# Altium integrated library Micron Memory Parallel NOR Flash.IntLib: 720 symbols (part 101 of 216)
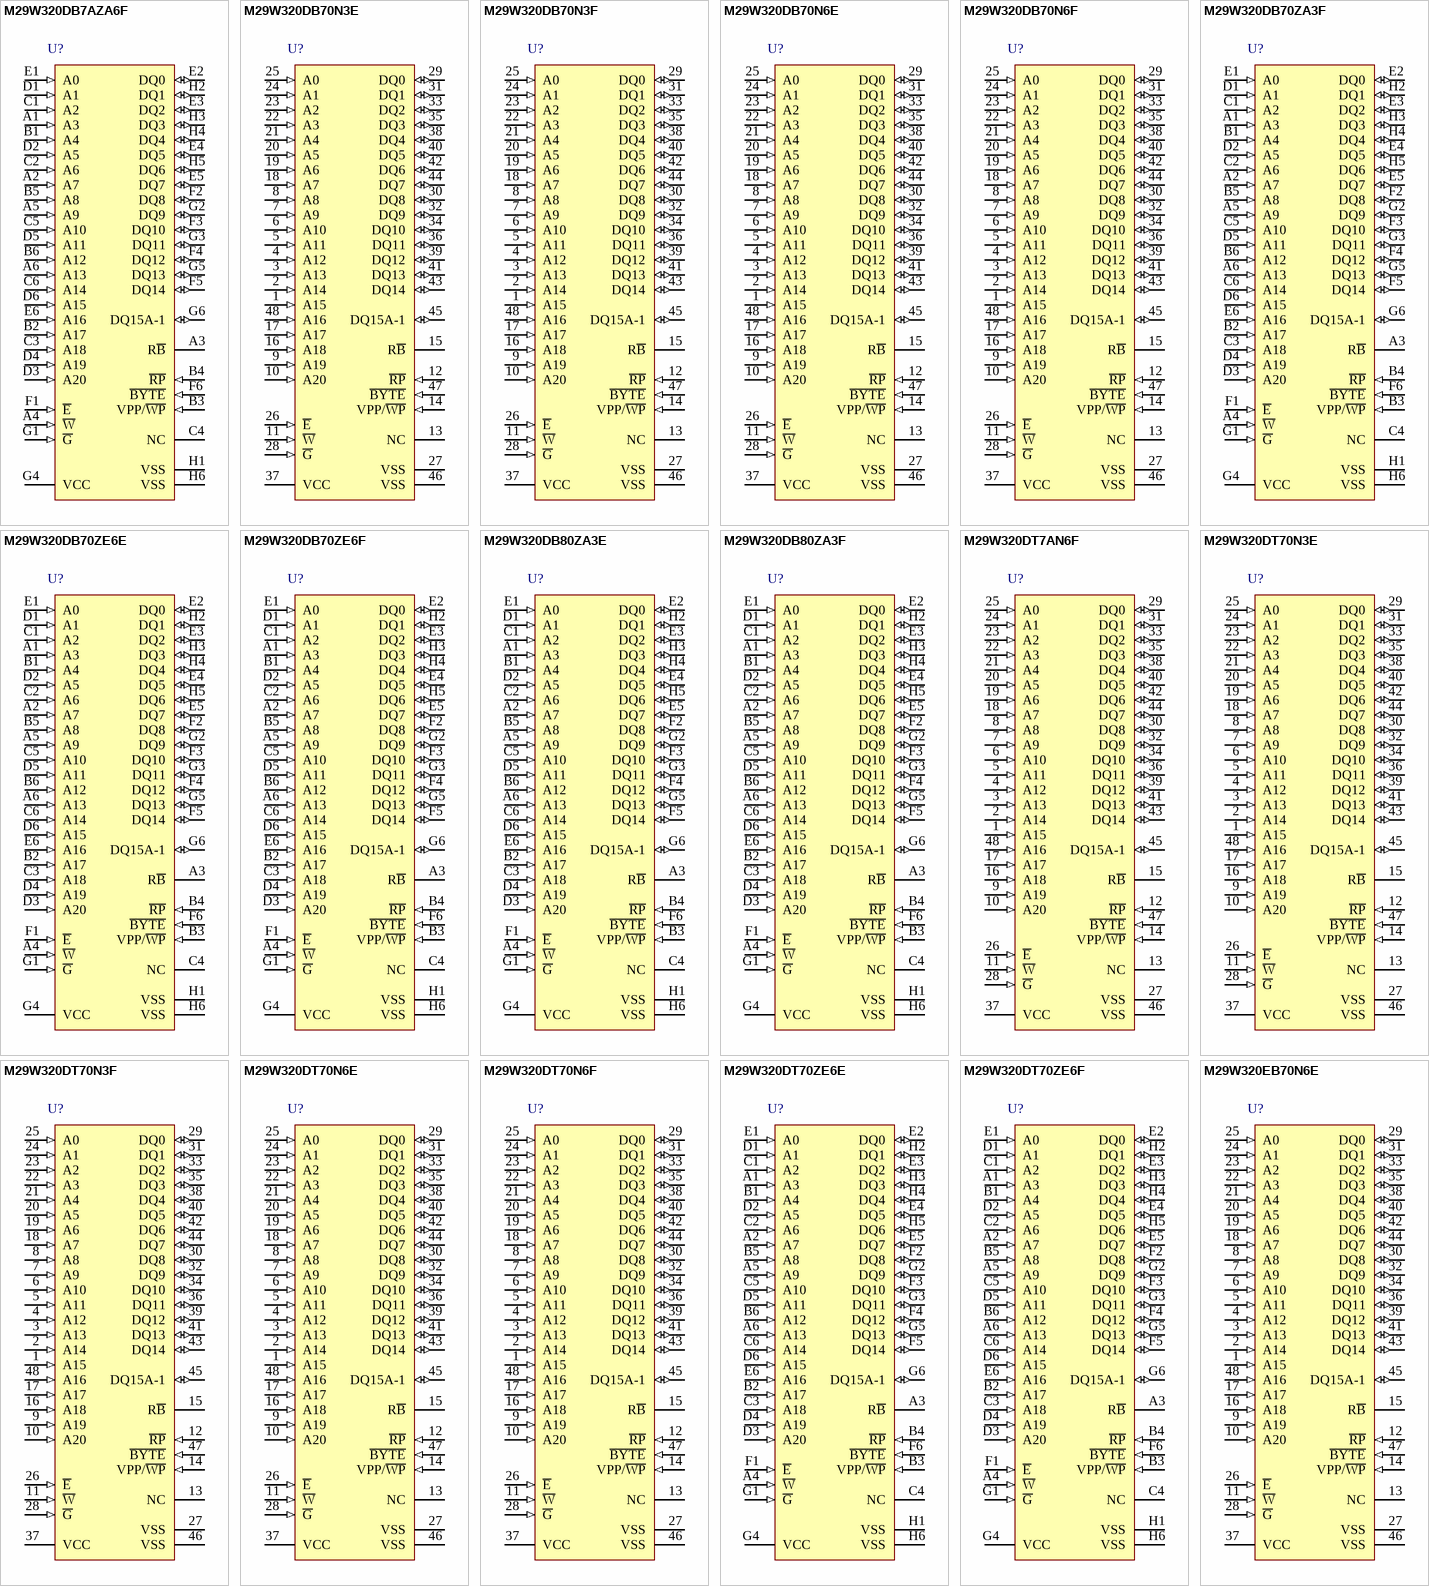
[diagram p144: symbols M29W320DB7AZA6F to M29W320EB70N6E]

## M29W320DB70N3F
designator U?
32 Mb (x8/x16) Automotive Parallel NOR Flash Memory, 70 ns, 2.7 to 3.6 V, 48-pin TSOP (N), Tape & Reel; Part Family: M29W; Manufacturer: Micron; PartNumber: M29W320DB70N3F; Density: 32Mb; Op Temp: -40C to +125C; Speed: 70ns; Voltage: 2.7V-3.6V; DatasheetVersion: Rev. 12; PackageVersion: Rev 11; PackageReference: MICT-N-48; PackageDescription: 48-Pin TSOP, 18.4 X 12 mm, Pitch 0.5 mm; RoHS: Yes; Width: x8/x16; Mounting Technology: Surface Mount; ComponentLink1Description: Manufacturer URL; ComponentLink1URL: http://www.micron.com/; ComponentLink2Description: Datasheet; ComponentLink2URL: http://www.micron.com/~/media/Documents/Products/Data%20Sheet/NOR%20Flash/Parallel/P33/208034_P33_65nm_SBC_64M_128M_Discrete_DS.pdf; ComponentLink3Description: Package Specification; ComponentLink3URL: http://www.micron.com/~/media/Documents/Products/Data%20Sheet/NOR%20Flash/Parallel/P30/306666_P30_130nm_Discrete_DS.pdf
footprint MICT-N-48_N (SOP, 48-Leads, Body 12x18.4mm, Pitch 0.5mm, IPC Medium Density)
pins: 1 A15 (in) "The Address Input select the cells in the memory array to access during Bus Read  operations. During Bus Write operations they control the commands sent to the Command  Interface of the internal state machine.", 2 A14 (in) "The Address Input select the cells in the memory array to access during Bus Read  operations. During Bus Write operations they control the commands sent to the Command  Interface of the internal state machine.", 3 A13 (in) "The Address Input select the cells in the memory array to access during Bus Read  operations. During Bus Write operations they control the commands sent to the Command  Interface of the internal state machine.", 4 A12 (in) "The Address Input select the cells in the memory array to access during Bus Read  operations. During Bus Write operations they control the commands sent to the Command  Interface of the internal state machine.", 5 A11 (in) "The Address Input select the cells in the memory array to access during Bus Read  operations. During Bus Write operations they control the commands sent to the Command  Interface of the internal state machine.", 6 A10 (in) "The Address Input select the cells in the memory array to access during Bus Read  operations. During Bus Write operations they control the commands sent to the Command  Interface of the internal state machine.", 7 A9 (in) "The Address Input select the cells in the memory array to access during Bus Read  operations. During Bus Write operations they control the commands sent to the Command  Interface of the internal state machine.", 8 A8 (in) "The Address Input select the cells in the memory array to access during Bus Read  operations. During Bus Write operations they control the commands sent to the Command  Interface of the internal state machine.", 9 A19 (in) "The Address Input select the cells in the memory array to access during Bus Read  operations. During Bus Write operations they control the commands sent to the Command  Interface of the internal state machine.", 10 A20 (in) "The Address Input select the cells in the memory array to access during Bus Read  operations. During Bus Write operations they control the commands sent to the Command  Interface of the internal state machine.", 11 ~{W} (in) "The Write Enable, W\, controls the Bus Write operation of the memory’s Command Interface.", 12 ~{RP} (in) "The Reset/Block Temporary Unprotect pin can be used to apply a Hardware Reset to the  memory or to temporarily unprotect all Blocks that have been protected.", 13 NC "Not Connected Internally", 14 VPP/~{WP} (in) "The VPP/Write Protect pin provides two functions. The VPP function allows the memory to  use an external high voltage power supply to reduce the time required for Unlock Bypass  Program operations. The Write Protect function (See Datasheet)", 15 R~{B} (hiz) "The Ready/Busy pin is an open-drain output that can be used to identify when the device is  performing a Program or Erase operation. During Program or Erase operations Ready/Busy  is Low, VOL . Ready/Busy is high-impedance (See Datasheet)", 16 A18 (in) "The Address Input select the cells in the memory array to access during Bus Read  operations. During Bus Write operations they control the commands sent to the Command  Interface of the internal state machine.", 17 A17 (in) "The Address Input select the cells in the memory array to access during Bus Read  operations. During Bus Write operations they control the commands sent to the Command  Interface of the internal state machine.", 18 A7 (in) "The Address Input select the cells in the memory array to access during Bus Read  operations. During Bus Write operations they control the commands sent to the Command  Interface of the internal state machine.", 19 A6 (in) "The Address Input select the cells in the memory array to access during Bus Read  operations. During Bus Write operations they control the commands sent to the Command  Interface of the internal state machine.", 20 A5 (in) "The Address Input select the cells in the memory array to access during Bus Read  operations. During Bus Write operations they control the commands sent to the Command  Interface of the internal state machine.", 21 A4 (in) "The Address Input select the cells in the memory array to access during Bus Read  operations. During Bus Write operations they control the commands sent to the Command  Interface of the internal state machine.", 22 A3 (in) "The Address Input select the cells in the memory array to access during Bus Read  operations. During Bus Write operations they control the commands sent to the Command  Interface of the internal state machine.", 23 A2 (in) "The Address Input select the cells in the memory array to access during Bus Read  operations. During Bus Write operations they control the commands sent to the Command  Interface of the internal state machine.", 24 A1 (in) "The Address Input select the cells in the memory array to access during Bus Read  operations. During Bus Write operations they control the commands sent to the Command  Interface of the internal state machine.", 25 A0 (in) "The Address Input select the cells in the memory array to access during Bus Read  operations. During Bus Write operations they control the commands sent to the Command  Interface of the internal state machine.", 26 ~{E} (in) "The Chip Enable, E\, activates the memory, allowing Bus Read and Bus Write operations to  be performed. When Chip Enable is High, VIH, all other pins are ignored.", 27 VSS (power) "VSS is the reference for all voltage measurements.", 28 ~{G} (in) "The Output Enable, G\, controls the Bus Read operation of the memory", 29 DQ0 (io) "The Data I/O Output the data stored at the selected address during a Bus Read operation.  During Bus Write operations they represent the commands sent to the Command Interface  of the internal state machine.", 30 DQ8 (io) "The Data I/O outputs the data stored at the selected address during a Bus Read operation  when B\Y\T\E\ is High, VIH. When B\Y\T\E\ is Low, VIL , these pins are not used and are high  impedance. During Bus Write operations (See Datasheet)", 31 DQ1 (io) "The Data I/O Output the data stored at the selected address during a Bus Read operation.  During Bus Write operations they represent the commands sent to the Command Interface  of the internal state machine.", 32 DQ9 (io) "The Data I/O outputs the data stored at the selected address during a Bus Read operation  when B\Y\T\E\ is High, VIH. When B\Y\T\E\ is Low, VIL , these pins are not used and are high  impedance. During Bus Write operations (See Datasheet)", 33 DQ2 (io) "The Data I/O Output the data stored at the selected address during a Bus Read operation.  During Bus Write operations they represent the commands sent to the Command Interface  of the internal state machine.", 34 DQ10 (io) "The Data I/O outputs the data stored at the selected address during a Bus Read operation  when B\Y\T\E\ is High, VIH. When B\Y\T\E\ is Low, VIL , these pins are not used and are high  impedance. During Bus Write operations (See Datasheet)", 35 DQ3 (io) "The Data I/O outputs the data stored at the selected address during a Bus Read operation.  During Bus Write operations they represent the commands sent to the Command Interface  of the internal state machine.", 36 DQ11 (io) "The Data I/O outputs the data stored at the selected address during a Bus Read operation  when B\Y\T\E\ is High, VIH. When B\Y\T\E\ is Low, VIL , these pins are not used and are high  impedance. During Bus Write operations (See Datasheet)", 37 VCC (power) "VCC provides the power supply for all operations (Read, Program and Erase).", 38 DQ4 (io) "The Data I/O OUTPUT the data stored at the selected address during a Bus Read operation.  During Bus Write operations they represent the commands sent to the Command Interface  of the internal state machine.", 39 DQ12 (io) "The Data I/O outputs the data stored at the selected address during a Bus Read operation  when B\Y\T\E\ is High, VIH. When B\Y\T\E\ is Low, VIL , these pins are not used and are high  impedance. During Bus Write operations (See Datasheet)", 40 DQ5 (io) "The Data I/O outputs the data stored at the selected address during a Bus Read operation.  During Bus Write operations they represent the commands sent to the Command Interface  of the internal state machine.", 41 DQ13 (io) "The Data I/O outputs the data stored at the selected address during a Bus Read operation  when B\Y\T\E\ is High, VIH. When B\Y\T\E\ is Low, VIL , these pins are not used and are high  impedance. During Bus Write operations (See Datasheet)", 42 DQ6 (io) "The Data I/O outputs the data stored at the selected address during a Bus Read operation.  During Bus Write operations they represent the commands sent to the Command Interface  of the internal state machine.", 43 DQ14 (io) "The Data I/O outputs the data stored at the selected address during a Bus Read operation  when B\Y\T\E\ is High, VIH. When B\Y\T\E\ is Low, VIL , these pins are not used and are high  impedance. During Bus Write operations (See Datasheet)", 44 DQ7 (io) "The Data I/O outputs the data stored at the selected address during a Bus Read operation.  During Bus Write operations they represent the commands sent to the Command Interface  of the internal state machine.", 45 DQ15A-1 (io) "When B\Y\T\E\ is High, VIH, this pin behaves as a Data Input/Output pin (as DQ8-DQ14).  When B\Y\T\E\ is Low, VIL , this pin behaves as an address pin; DQ15A-1 Low will select the  LSB of the Word on the other addresses, (See Datasheet)", 46 VSS (power) "VSS is the reference for all voltage measurements.", 47 ~{BYTE} (in) "The Byte/Word Organization Select pin is used to switch between the x8 and x16 Bus  modes of the memory. When Byte/Word Organization Select is Low, VIL , the memory is in  x8 mode, when it is High, VIH, the memory is in x16 (See Datasheet)", 48 A16 (in) "The Address Input select the cells in the memory array to access during Bus Read  operations. During Bus Write operations they control the commands sent to the Command  Interface of the internal state machine."

## M29W320DB70N6E
designator U?
32 Mb (x8/x16) Parallel NOR Flash Memory, 70 ns, 2.7 to 3.6 V, 48-pin TSOP (N), Tray; Part Family: M29W; Manufacturer: Micron; PartNumber: M29W320DB70N6E; Density: 32Mb; Op Temp: -40C to +85C; Speed: 70ns; Voltage: 2.7V-3.6V; DatasheetVersion: Rev. 12; PackageVersion: Rev 11; PackageReference: MICT-N-48; PackageDescription: 48-Pin TSOP, 18.4 X 12 mm, Pitch 0.5 mm; RoHS: Yes; Width: x8/x16; Mounting Technology: Surface Mount; ComponentLink1Description: Manufacturer URL; ComponentLink1URL: http://www.micron.com/; ComponentLink2Description: Datasheet; ComponentLink2URL: http://www.micron.com/~/media/Documents/Products/Data%20Sheet/NOR%20Flash/Parallel/P33/208034_P33_65nm_SBC_64M_128M_Discrete_DS.pdf; ComponentLink3Description: Package Specification; ComponentLink3URL: http://www.micron.com/~/media/Documents/Products/Data%20Sheet/NOR%20Flash/Parallel/P30/306666_P30_130nm_Discrete_DS.pdf
footprint MICT-N-48_N (SOP, 48-Leads, Body 12x18.4mm, Pitch 0.5mm, IPC Medium Density)
pins: 1 A15 (in) "The Address Input select the cells in the memory array to access during Bus Read  operations. During Bus Write operations they control the commands sent to the Command  Interface of the internal state machine.", 2 A14 (in) "The Address Input select the cells in the memory array to access during Bus Read  operations. During Bus Write operations they control the commands sent to the Command  Interface of the internal state machine.", 3 A13 (in) "The Address Input select the cells in the memory array to access during Bus Read  operations. During Bus Write operations they control the commands sent to the Command  Interface of the internal state machine.", 4 A12 (in) "The Address Input select the cells in the memory array to access during Bus Read  operations. During Bus Write operations they control the commands sent to the Command  Interface of the internal state machine.", 5 A11 (in) "The Address Input select the cells in the memory array to access during Bus Read  operations. During Bus Write operations they control the commands sent to the Command  Interface of the internal state machine.", 6 A10 (in) "The Address Input select the cells in the memory array to access during Bus Read  operations. During Bus Write operations they control the commands sent to the Command  Interface of the internal state machine.", 7 A9 (in) "The Address Input select the cells in the memory array to access during Bus Read  operations. During Bus Write operations they control the commands sent to the Command  Interface of the internal state machine.", 8 A8 (in) "The Address Input select the cells in the memory array to access during Bus Read  operations. During Bus Write operations they control the commands sent to the Command  Interface of the internal state machine.", 9 A19 (in) "The Address Input select the cells in the memory array to access during Bus Read  operations. During Bus Write operations they control the commands sent to the Command  Interface of the internal state machine.", 10 A20 (in) "The Address Input select the cells in the memory array to access during Bus Read  operations. During Bus Write operations they control the commands sent to the Command  Interface of the internal state machine.", 11 ~{W} (in) "The Write Enable, W\, controls the Bus Write operation of the memory’s Command Interface.", 12 ~{RP} (in) "The Reset/Block Temporary Unprotect pin can be used to apply a Hardware Reset to the  memory or to temporarily unprotect all Blocks that have been protected.", 13 NC "Not Connected Internally", 14 VPP/~{WP} (in) "The VPP/Write Protect pin provides two functions. The VPP function allows the memory to  use an external high voltage power supply to reduce the time required for Unlock Bypass  Program operations. The Write Protect function (See Datasheet)", 15 R~{B} (hiz) "The Ready/Busy pin is an open-drain output that can be used to identify when the device is  performing a Program or Erase operation. During Program or Erase operations Ready/Busy  is Low, VOL . Ready/Busy is high-impedance (See Datasheet)", 16 A18 (in) "The Address Input select the cells in the memory array to access during Bus Read  operations. During Bus Write operations they control the commands sent to the Command  Interface of the internal state machine.", 17 A17 (in) "The Address Input select the cells in the memory array to access during Bus Read  operations. During Bus Write operations they control the commands sent to the Command  Interface of the internal state machine.", 18 A7 (in) "The Address Input select the cells in the memory array to access during Bus Read  operations. During Bus Write operations they control the commands sent to the Command  Interface of the internal state machine.", 19 A6 (in) "The Address Input select the cells in the memory array to access during Bus Read  operations. During Bus Write operations they control the commands sent to the Command  Interface of the internal state machine.", 20 A5 (in) "The Address Input select the cells in the memory array to access during Bus Read  operations. During Bus Write operations they control the commands sent to the Command  Interface of the internal state machine.", 21 A4 (in) "The Address Input select the cells in the memory array to access during Bus Read  operations. During Bus Write operations they control the commands sent to the Command  Interface of the internal state machine.", 22 A3 (in) "The Address Input select the cells in the memory array to access during Bus Read  operations. During Bus Write operations they control the commands sent to the Command  Interface of the internal state machine.", 23 A2 (in) "The Address Input select the cells in the memory array to access during Bus Read  operations. During Bus Write operations they control the commands sent to the Command  Interface of the internal state machine.", 24 A1 (in) "The Address Input select the cells in the memory array to access during Bus Read  operations. During Bus Write operations they control the commands sent to the Command  Interface of the internal state machine.", 25 A0 (in) "The Address Input select the cells in the memory array to access during Bus Read  operations. During Bus Write operations they control the commands sent to the Command  Interface of the internal state machine.", 26 ~{E} (in) "The Chip Enable, E\, activates the memory, allowing Bus Read and Bus Write operations to  be performed. When Chip Enable is High, VIH, all other pins are ignored.", 27 VSS (power) "VSS is the reference for all voltage measurements.", 28 ~{G} (in) "The Output Enable, G\, controls the Bus Read operation of the memory", 29 DQ0 (io) "The Data I/O Output the data stored at the selected address during a Bus Read operation.  During Bus Write operations they represent the commands sent to the Command Interface  of the internal state machine.", 30 DQ8 (io) "The Data I/O outputs the data stored at the selected address during a Bus Read operation  when B\Y\T\E\ is High, VIH. When B\Y\T\E\ is Low, VIL , these pins are not used and are high  impedance. During Bus Write operations (See Datasheet)", 31 DQ1 (io) "The Data I/O Output the data stored at the selected address during a Bus Read operation.  During Bus Write operations they represent the commands sent to the Command Interface  of the internal state machine.", 32 DQ9 (io) "The Data I/O outputs the data stored at the selected address during a Bus Read operation  when B\Y\T\E\ is High, VIH. When B\Y\T\E\ is Low, VIL , these pins are not used and are high  impedance. During Bus Write operations (See Datasheet)", 33 DQ2 (io) "The Data I/O Output the data stored at the selected address during a Bus Read operation.  During Bus Write operations they represent the commands sent to the Command Interface  of the internal state machine.", 34 DQ10 (io) "The Data I/O outputs the data stored at the selected address during a Bus Read operation  when B\Y\T\E\ is High, VIH. When B\Y\T\E\ is Low, VIL , these pins are not used and are high  impedance. During Bus Write operations (See Datasheet)", 35 DQ3 (io) "The Data I/O outputs the data stored at the selected address during a Bus Read operation.  During Bus Write operations they represent the commands sent to the Command Interface  of the internal state machine.", 36 DQ11 (io) "The Data I/O outputs the data stored at the selected address during a Bus Read operation  when B\Y\T\E\ is High, VIH. When B\Y\T\E\ is Low, VIL , these pins are not used and are high  impedance. During Bus Write operations (See Datasheet)", 37 VCC (power) "VCC provides the power supply for all operations (Read, Program and Erase).", 38 DQ4 (io) "The Data I/O OUTPUT the data stored at the selected address during a Bus Read operation.  During Bus Write operations they represent the commands sent to the Command Interface  of the internal state machine.", 39 DQ12 (io) "The Data I/O outputs the data stored at the selected address during a Bus Read operation  when B\Y\T\E\ is High, VIH. When B\Y\T\E\ is Low, VIL , these pins are not used and are high  impedance. During Bus Write operations (See Datasheet)", 40 DQ5 (io) "The Data I/O outputs the data stored at the selected address during a Bus Read operation.  During Bus Write operations they represent the commands sent to the Command Interface  of the internal state machine.", 41 DQ13 (io) "The Data I/O outputs the data stored at the selected address during a Bus Read operation  when B\Y\T\E\ is High, VIH. When B\Y\T\E\ is Low, VIL , these pins are not used and are high  impedance. During Bus Write operations (See Datasheet)", 42 DQ6 (io) "The Data I/O outputs the data stored at the selected address during a Bus Read operation.  During Bus Write operations they represent the commands sent to the Command Interface  of the internal state machine.", 43 DQ14 (io) "The Data I/O outputs the data stored at the selected address during a Bus Read operation  when B\Y\T\E\ is High, VIH. When B\Y\T\E\ is Low, VIL , these pins are not used and are high  impedance. During Bus Write operations (See Datasheet)", 44 DQ7 (io) "The Data I/O outputs the data stored at the selected address during a Bus Read operation.  During Bus Write operations they represent the commands sent to the Command Interface  of the internal state machine.", 45 DQ15A-1 (io) "When B\Y\T\E\ is High, VIH, this pin behaves as a Data Input/Output pin (as DQ8-DQ14).  When B\Y\T\E\ is Low, VIL , this pin behaves as an address pin; DQ15A-1 Low will select the  LSB of the Word on the other addresses, (See Datasheet)", 46 VSS (power) "VSS is the reference for all voltage measurements.", 47 ~{BYTE} (in) "The Byte/Word Organization Select pin is used to switch between the x8 and x16 Bus  modes of the memory. When Byte/Word Organization Select is Low, VIL , the memory is in  x8 mode, when it is High, VIH, the memory is in x16 (See Datasheet)", 48 A16 (in) "The Address Input select the cells in the memory array to access during Bus Read  operations. During Bus Write operations they control the commands sent to the Command  Interface of the internal state machine."

## M29W320DB70N6F
designator U?
32 Mb (x8/x16) Parallel NOR Flash Memory, 70 ns, 2.7 to 3.6 V, 48-pin TSOP (N), Tape & Reel; Part Family: M29W; Manufacturer: Micron; PartNumber: M29W320DB70N6F; Density: 32Mb; Op Temp: -40C to +85C; Speed: 70ns; Voltage: 2.7V-3.6V; DatasheetVersion: Rev. 12; PackageVersion: Rev 11; PackageReference: MICT-N-48; PackageDescription: 48-Pin TSOP, 18.4 X 12 mm, Pitch 0.5 mm; RoHS: Yes; Width: x8/x16; Mounting Technology: Surface Mount; ComponentLink1Description: Manufacturer URL; ComponentLink1URL: http://www.micron.com/; ComponentLink2Description: Datasheet; ComponentLink2URL: http://www.micron.com/~/media/Documents/Products/Data%20Sheet/NOR%20Flash/Parallel/P33/208034_P33_65nm_SBC_64M_128M_Discrete_DS.pdf; ComponentLink3Description: Package Specification; ComponentLink3URL: http://www.micron.com/~/media/Documents/Products/Data%20Sheet/NOR%20Flash/Parallel/P30/306666_P30_130nm_Discrete_DS.pdf
footprint MICT-N-48_N (SOP, 48-Leads, Body 12x18.4mm, Pitch 0.5mm, IPC Medium Density)
pins: 1 A15 (in) "The Address Input select the cells in the memory array to access during Bus Read  operations. During Bus Write operations they control the commands sent to the Command  Interface of the internal state machine.", 2 A14 (in) "The Address Input select the cells in the memory array to access during Bus Read  operations. During Bus Write operations they control the commands sent to the Command  Interface of the internal state machine.", 3 A13 (in) "The Address Input select the cells in the memory array to access during Bus Read  operations. During Bus Write operations they control the commands sent to the Command  Interface of the internal state machine.", 4 A12 (in) "The Address Input select the cells in the memory array to access during Bus Read  operations. During Bus Write operations they control the commands sent to the Command  Interface of the internal state machine.", 5 A11 (in) "The Address Input select the cells in the memory array to access during Bus Read  operations. During Bus Write operations they control the commands sent to the Command  Interface of the internal state machine.", 6 A10 (in) "The Address Input select the cells in the memory array to access during Bus Read  operations. During Bus Write operations they control the commands sent to the Command  Interface of the internal state machine.", 7 A9 (in) "The Address Input select the cells in the memory array to access during Bus Read  operations. During Bus Write operations they control the commands sent to the Command  Interface of the internal state machine.", 8 A8 (in) "The Address Input select the cells in the memory array to access during Bus Read  operations. During Bus Write operations they control the commands sent to the Command  Interface of the internal state machine.", 9 A19 (in) "The Address Input select the cells in the memory array to access during Bus Read  operations. During Bus Write operations they control the commands sent to the Command  Interface of the internal state machine.", 10 A20 (in) "The Address Input select the cells in the memory array to access during Bus Read  operations. During Bus Write operations they control the commands sent to the Command  Interface of the internal state machine.", 11 ~{W} (in) "The Write Enable, W\, controls the Bus Write operation of the memory’s Command Interface.", 12 ~{RP} (in) "The Reset/Block Temporary Unprotect pin can be used to apply a Hardware Reset to the  memory or to temporarily unprotect all Blocks that have been protected.", 13 NC "Not Connected Internally", 14 VPP/~{WP} (in) "The VPP/Write Protect pin provides two functions. The VPP function allows the memory to  use an external high voltage power supply to reduce the time required for Unlock Bypass  Program operations. The Write Protect function (See Datasheet)", 15 R~{B} (hiz) "The Ready/Busy pin is an open-drain output that can be used to identify when the device is  performing a Program or Erase operation. During Program or Erase operations Ready/Busy  is Low, VOL . Ready/Busy is high-impedance (See Datasheet)", 16 A18 (in) "The Address Input select the cells in the memory array to access during Bus Read  operations. During Bus Write operations they control the commands sent to the Command  Interface of the internal state machine.", 17 A17 (in) "The Address Input select the cells in the memory array to access during Bus Read  operations. During Bus Write operations they control the commands sent to the Command  Interface of the internal state machine.", 18 A7 (in) "The Address Input select the cells in the memory array to access during Bus Read  operations. During Bus Write operations they control the commands sent to the Command  Interface of the internal state machine.", 19 A6 (in) "The Address Input select the cells in the memory array to access during Bus Read  operations. During Bus Write operations they control the commands sent to the Command  Interface of the internal state machine.", 20 A5 (in) "The Address Input select the cells in the memory array to access during Bus Read  operations. During Bus Write operations they control the commands sent to the Command  Interface of the internal state machine.", 21 A4 (in) "The Address Input select the cells in the memory array to access during Bus Read  operations. During Bus Write operations they control the commands sent to the Command  Interface of the internal state machine.", 22 A3 (in) "The Address Input select the cells in the memory array to access during Bus Read  operations. During Bus Write operations they control the commands sent to the Command  Interface of the internal state machine.", 23 A2 (in) "The Address Input select the cells in the memory array to access during Bus Read  operations. During Bus Write operations they control the commands sent to the Command  Interface of the internal state machine.", 24 A1 (in) "The Address Input select the cells in the memory array to access during Bus Read  operations. During Bus Write operations they control the commands sent to the Command  Interface of the internal state machine.", 25 A0 (in) "The Address Input select the cells in the memory array to access during Bus Read  operations. During Bus Write operations they control the commands sent to the Command  Interface of the internal state machine.", 26 ~{E} (in) "The Chip Enable, E\, activates the memory, allowing Bus Read and Bus Write operations to  be performed. When Chip Enable is High, VIH, all other pins are ignored.", 27 VSS (power) "VSS is the reference for all voltage measurements.", 28 ~{G} (in) "The Output Enable, G\, controls the Bus Read operation of the memory", 29 DQ0 (io) "The Data I/O Output the data stored at the selected address during a Bus Read operation.  During Bus Write operations they represent the commands sent to the Command Interface  of the internal state machine.", 30 DQ8 (io) "The Data I/O outputs the data stored at the selected address during a Bus Read operation  when B\Y\T\E\ is High, VIH. When B\Y\T\E\ is Low, VIL , these pins are not used and are high  impedance. During Bus Write operations (See Datasheet)", 31 DQ1 (io) "The Data I/O Output the data stored at the selected address during a Bus Read operation.  During Bus Write operations they represent the commands sent to the Command Interface  of the internal state machine.", 32 DQ9 (io) "The Data I/O outputs the data stored at the selected address during a Bus Read operation  when B\Y\T\E\ is High, VIH. When B\Y\T\E\ is Low, VIL , these pins are not used and are high  impedance. During Bus Write operations (See Datasheet)", 33 DQ2 (io) "The Data I/O Output the data stored at the selected address during a Bus Read operation.  During Bus Write operations they represent the commands sent to the Command Interface  of the internal state machine.", 34 DQ10 (io) "The Data I/O outputs the data stored at the selected address during a Bus Read operation  when B\Y\T\E\ is High, VIH. When B\Y\T\E\ is Low, VIL , these pins are not used and are high  impedance. During Bus Write operations (See Datasheet)", 35 DQ3 (io) "The Data I/O outputs the data stored at the selected address during a Bus Read operation.  During Bus Write operations they represent the commands sent to the Command Interface  of the internal state machine.", 36 DQ11 (io) "The Data I/O outputs the data stored at the selected address during a Bus Read operation  when B\Y\T\E\ is High, VIH. When B\Y\T\E\ is Low, VIL , these pins are not used and are high  impedance. During Bus Write operations (See Datasheet)", 37 VCC (power) "VCC provides the power supply for all operations (Read, Program and Erase).", 38 DQ4 (io) "The Data I/O OUTPUT the data stored at the selected address during a Bus Read operation.  During Bus Write operations they represent the commands sent to the Command Interface  of the internal state machine.", 39 DQ12 (io) "The Data I/O outputs the data stored at the selected address during a Bus Read operation  when B\Y\T\E\ is High, VIH. When B\Y\T\E\ is Low, VIL , these pins are not used and are high  impedance. During Bus Write operations (See Datasheet)", 40 DQ5 (io) "The Data I/O outputs the data stored at the selected address during a Bus Read operation.  During Bus Write operations they represent the commands sent to the Command Interface  of the internal state machine.", 41 DQ13 (io) "The Data I/O outputs the data stored at the selected address during a Bus Read operation  when B\Y\T\E\ is High, VIH. When B\Y\T\E\ is Low, VIL , these pins are not used and are high  impedance. During Bus Write operations (See Datasheet)", 42 DQ6 (io) "The Data I/O outputs the data stored at the selected address during a Bus Read operation.  During Bus Write operations they represent the commands sent to the Command Interface  of the internal state machine.", 43 DQ14 (io) "The Data I/O outputs the data stored at the selected address during a Bus Read operation  when B\Y\T\E\ is High, VIH. When B\Y\T\E\ is Low, VIL , these pins are not used and are high  impedance. During Bus Write operations (See Datasheet)", 44 DQ7 (io) "The Data I/O outputs the data stored at the selected address during a Bus Read operation.  During Bus Write operations they represent the commands sent to the Command Interface  of the internal state machine.", 45 DQ15A-1 (io) "When B\Y\T\E\ is High, VIH, this pin behaves as a Data Input/Output pin (as DQ8-DQ14).  When B\Y\T\E\ is Low, VIL , this pin behaves as an address pin; DQ15A-1 Low will select the  LSB of the Word on the other addresses, (See Datasheet)", 46 VSS (power) "VSS is the reference for all voltage measurements.", 47 ~{BYTE} (in) "The Byte/Word Organization Select pin is used to switch between the x8 and x16 Bus  modes of the memory. When Byte/Word Organization Select is Low, VIL , the memory is in  x8 mode, when it is High, VIH, the memory is in x16 (See Datasheet)", 48 A16 (in) "The Address Input select the cells in the memory array to access during Bus Read  operations. During Bus Write operations they control the commands sent to the Command  Interface of the internal state machine."

## M29W320DB70ZA3F
designator U?
32 Mb (x8/x16) Automotive Parallel NOR Flash Memory, 70 ns, 2.7 to 3.6 V, 48-ball TFBGA (ZE), Tape & Reel; Part Family: M29W; Manufacturer: Micron; PartNumber: M29W320DB70ZA3F; Density: 32Mb; Op Temp: -40C to +125C; Speed: 70ns; Voltage: 2.7V-3.6V; DatasheetVersion: Rev. 12; PackageVersion: Rev. 11; PackageReference: MICT-ZA-48; PackageDescription: 48-Ball TFBGA, 8 X 6 mm, Pitch 0.8 mm; RoHS: Yes; Width: x8/x16; Mounting Technology: Surface Mount; ComponentLink1Description: Manufacturer URL; ComponentLink1URL: http://www.micron.com/; ComponentLink2Description: Datasheet; ComponentLink2URL: http://www.micron.com/~/media/Documents/Products/Data%20Sheet/NOR%20Flash/Parallel/P33/208034_P33_65nm_SBC_64M_128M_Discrete_DS.pdf; ComponentLink3Description: Package Specification; ComponentLink3URL: http://www.micron.com/~/media/Documents/Products/Data%20Sheet/NOR%20Flash/Parallel/P33/208034_P33_65nm_SBC_64M_128M_Discrete_DS.pdf
footprint MICT-ZA-48 (BGA, 48-Balls, Body 8x6 mm, Pitch 0.8 mm)
pins: A1 A3 (in) "The Address Inputs select the cells in the memory array to access during Bus Read operations. During Bus Write operations they control the commands sent to the Command Interface of the internal state machine.", A2 A7 (in) "The Address Inputs select the cells in the memory array to access during Bus Read operations. During Bus Write operations they control the commands sent to the Command Interface of the internal state machine.", A3 R~{B} (hiz) "The Ready/Busy pin is an open-drain output that can be used to identify when the device is performing a Program or Erase operation. During Program or Erase operations Ready/Busy is Low, VOL. Ready/Busy is high-impedance (See Datasheet)", A4 ~{W} (in) "The Write Enable, W\, controls the Bus Write operation of the memory’s Command Interface.", A5 A9 (in) "The Address Inputs select the cells in the memory array to access during Bus Read operations. During Bus Write operations they control the commands sent to the Command Interface of the internal state machine.", A6 A13 (in) "The Address Input select the cells in the memory array to access during Bus Read operations. During Bus Write operations they control the commands sent to the Command Interface of the internal state machine.", B1 A4 (in) "The Address Inputs select the cells in the memory array to access during Bus Read operations. During Bus Write operations they control the commands sent to the Command Interface of the internal state machine.", B2 A17 (in) "The Address Input select the cells in the memory array to access during Bus Read operations. During Bus Write operations they control the commands sent to the Command Interface of the internal state machine.", B3 VPP/~{WP} (in) "The VPP/Write Protect pin provides two functions. The VPP function allows the memory to use an external high voltage power supply to reduce the time required for Unlock Bypass Program operations. The Write Protect function (See Datasheet)", B4 ~{RP} (in) "The Reset/Block Temporary Unprotect pin can be used to apply a Hardware Reset to the memory or to temporarily unprotect all Blocks that have been protected.Note that if VPP/W\P\ is at VIL, then the 16 KByte outermost boot (See Datasheet)", B5 A8 (in) "The Address Inputs select the cells in the memory array to access during Bus Read operations. During Bus Write operations they control the commands sent to the Command Interface of the internal state machine.", B6 A12 (in) "The Address Input select the cells in the memory array to access during Bus Read operations. During Bus Write operations they control the commands sent to the Command Interface of the internal state machine.", C1 A2 (in) "The Address Inputs select the cells in the memory array to access during Bus Read operations. During Bus Write operations they control the commands sent to the Command Interface of the internal state machine.", C2 A6 (in) "The Address Inputs select the cells in the memory array to access during Bus Read operations. During Bus Write operations they control the commands sent to the Command Interface of the internal state machine.", C3 A18 (in) "The Address Input select the cells in the memory array to access during Bus Read operations. During Bus Write operations they control the commands sent to the Command Interface of the internal state machine.", C4 NC "Not Connected Internally", C5 A10 (in) "The Address Inputs select the cells in the memory array to access during Bus Read operations. During Bus Write operations they control the commands sent to the Command Interface of the internal state machine.", C6 A14 (in) "The Address Input select the cells in the memory array to access during Bus Read operations. During Bus Write operations they control the commands sent to the Command Interface of the internal state machine.", D1 A1 (in) "The Address Inputs select the cells in the memory array to access during Bus Read operations. During Bus Write operations they control the commands sent to the Command Interface of the internal state machine.", D2 A5 (in) "The Address Inputs select the cells in the memory array to access during Bus Read operations. During Bus Write operations they control the commands sent to the Command Interface of the internal state machine.", D3 A20 (in) "The Address Input select the cells in the memory array to access during Bus Read operations. During Bus Write operations they control the commands sent to the Command Interface of the internal state machine.", D4 A19 (in) "The Address Input select the cells in the memory array to access during Bus Read operations. During Bus Write operations they control the commands sent to the Command Interface of the internal state machine.", D5 A11 (in) "The Address Inputs select the cells in the memory array to access during Bus Read operations. During Bus Write operations they control the commands sent to the Command Interface of the internal state machine.", D6 A15 (in) "The Address Input select the cells in the memory array to access during Bus Read operations. During Bus Write operations they control the commands sent to the Command Interface of the internal state machine.", E1 A0 (in) "The Address Input select the cells in the memory array to access during Bus Read operations. During Bus Write operations they control the commands sent to the Command Interface of the internal state machine.", E2 DQ0 (io) "The Data I/O Output the data stored at the selected address during a Bus Read operation.During Bus Write operations they represent the commands sent to the Command Interface of the internal state machine.", E3 DQ2 (io) "The Data I/O Output the data stored at the selected address during a Bus Read operation.During Bus Write operations they represent the commands sent to the Command Interface of the internal state machine.", E4 DQ5 (io) "The Data I/O outputs the data stored at the selected address during a Bus Read operation.During Bus Write operations they represent the commands sent to the Command Interface of the internal state machine.", E5 DQ7 (io) "The Data I/O outputs the data stored at the selected address during a Bus Read operation.During Bus Write operations they represent the commands sent to the Command Interface of the internal state machine.", E6 A16 (in) "The Address Input select the cells in the memory array to access during Bus Read operations. During Bus Write operations they control the commands sent to the Command Interface of the internal state machine.", F1 ~{E} (in) "The Chip Enable, E\, activates the memory, allowing Bus Read and Bus Write operations to be performed. When Chip Enable is High, VIH, all other pins are ignored.", F2 DQ8 (io) "The Data I/O outputs the data stored at the selected address during a Bus Read operation when B\Y\T\E\ is High, VIH. When B\Y\T\E\ is Low, VIL, these pins are not used and are high impedance. During Bus Write operations the (See Datasheet)", F3 DQ10 (io) "The Data I/O outputs the data stored at the selected address during a Bus Read operation when B\Y\T\E\ is High, VIH. When B\Y\T\E\ is Low, VIL, these pins are not used and are high impedance. During Bus Write operations the (See Datasheet)", F4 DQ12 (io) "The Data I/O outputs the data stored at the selected address during a Bus Read operation when B\Y\T\E\ is High, VIH. When B\Y\T\E\ is Low, VIL, these pins are not used and are high impedance. During Bus Write operations the (See Datasheet)", F5 DQ14 (io) "The Data I/O outputs the data stored at the selected address during a Bus Read operation when B\Y\T\E\ is High, VIH. When B\Y\T\E\ is Low, VIL, these pins are not used and are high impedance. During Bus Write operations the (See Datasheet)", F6 ~{BYTE} (in) "The Byte/Word Organization Select pin is used to switch between the x8 and x16 Bus modes of the memory. When Byte/Word Organization Select is Low, VIL, the memory is in x8 mode, when it is High, VIH, the memory is in x16 (See Datasheet)", G1 ~{G} (in) "The Output Enable, G\, controls the Bus Read operation of the memory.", G2 DQ9 (io) "The Data I/O outputs the data stored at the selected address during a Bus Read operation when B\Y\T\E\ is High, VIH. When B\Y\T\E\ is Low, VIL, these pins are not used and are high impedance. During Bus Write operations the (See Datasheet)", G3 DQ11 (io) "The Data I/O outputs the data stored at the selected address during a Bus Read operation when B\Y\T\E\ is High, VIH. When B\Y\T\E\ is Low, VIL, these pins are not used and are high impedance. During Bus Write operations the (See Datasheet)", G4 VCC (power) "VCC provides the power supply for all operations (Read, Program and Erase).The Command Interface is disabled when the VCC Supply Voltage is less than the Lockout Voltage, VLKO. This prevents Bus Write operations from (See Datasheet)", G5 DQ13 (io) "The Data I/O outputs the data stored at the selected address during a Bus Read operation when B\Y\T\E\ is High, VIH. When B\Y\T\E\ is Low, VIL, these pins are not used and are high impedance. During Bus Write operations the (See Datasheet)", G6 DQ15A-1 (io) "When B\Y\T\E\ is High, VIH, this pin behaves as a Data Input/Output pin (as DQ8-DQ14).When B\Y\T\E\ is Low, VIL, this pin behaves as an address pin; DQ15A-1 Low will select the LSB of the Word on the other addresses, DQ15A-1 (See Datasheet)", H1 VSS (power) "VSS is the reference for all voltage measurements.", H2 DQ1 (io) "The Data I/O Output the data stored at the selected address during a Bus Read operation.During Bus Write operations they represent the commands sent to the Command Interface of the internal state machine.", H3 DQ3 (io) "The Data I/O outputs the data stored at the selected address during a Bus Read operation.During Bus Write operations they represent the commands sent to the Command Interface of the internal state machine.", H4 DQ4 (io) "The Data I/O OUTPUT the data stored at the selected address during a Bus Read operation.During Bus Write operations they represent the commands sent to the Command Interface of the internal state machine.", H5 DQ6 (io) "The Data I/O outputs the data stored at the selected address during a Bus Read operation.During Bus Write operations they represent the commands sent to the Command Interface of the internal state machine.", H6 VSS (power) "VSS is the reference for all voltage measurements."